# Altium schematic symbol library FDN338P.Schlib: 1 symbol
Pins are listed as number, name and electrical type; pins without a type are passive.

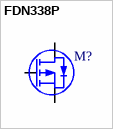
[diagram p0: symbol FDN338P]

## FDN338P
designator M?
20V 1.6A P-Channel
pins: 1 G, 2 S, 3 D